# Altium footprint library PCB - LEADED - SOP - TI SOP-20 PWP0020D.PcbLib: 1 footprints
Each footprint in its own frame and in the unit in brackets; x right, y up, seen from the top. Pads: shape width x height; smd on the part's side, far side on the other; paste and mask are expansions set on the pad; w line width, h text height; cw(c..) or ccw(c..) is an arc to the next point about the centre after c.
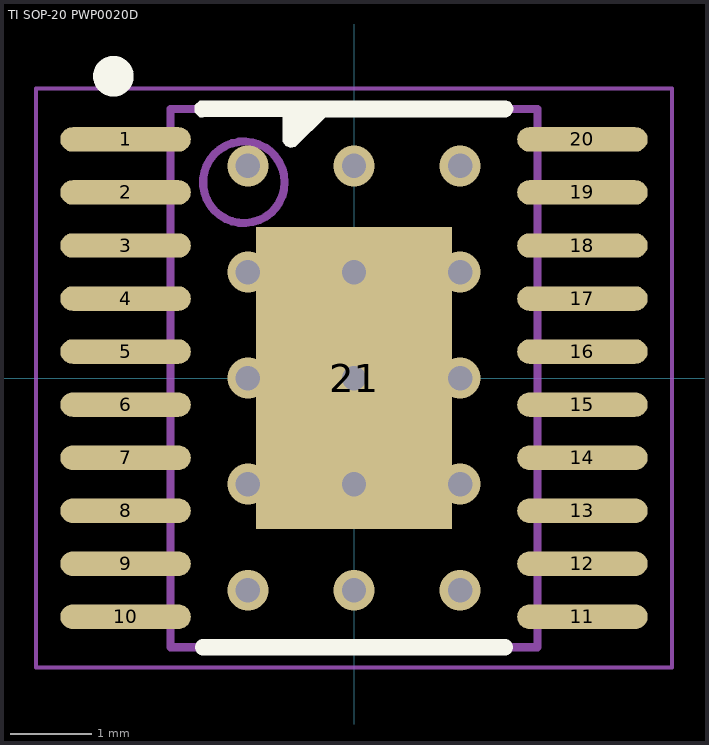
[diagram p0: the footprint, top view; thin cyan lines are the x and y axes]

## TI SOP-20 PWP0020D [mm] "SOP, 20-Leads, Body 6.50x4.40mm, Pitch 0.65mm, Thermal Pad 3.70x2.40mm, IPC Medium Density"
height 1.2
pads (21):
  oval 1.6x0.3 smd: 1(-2.8,2.925) 2(-2.8,2.275) 3(-2.8,1.625) 4(-2.8,0.975) 5(-2.8,0.325) 6(-2.8,-0.325) 7(-2.8,-0.975) 8(-2.8,-1.625) 9(-2.8,-2.275) 10(-2.8,-2.925) 11(2.8,-2.925) 12(2.8,-2.275) 13(2.8,-1.625) 14(2.8,-0.975) 15(2.8,-0.325) 16(2.8,0.325) 17(2.8,0.975) 18(2.8,1.625) 19(2.8,2.275) 20(2.8,2.925)
  rect 2.4x3.7 smd: 21(0,0)
via -1.3,-1.3 diameter 0.5 hole 0.3
via -1.3,-2.6 diameter 0.5 hole 0.3
via -1.3,2.6 diameter 0.5 hole 0.3
via -1.3,1.3 diameter 0.5 hole 0.3
via -1.3,0 diameter 0.5 hole 0.3
via 1.3,0 diameter 0.5 hole 0.3
via 1.3,-1.3 diameter 0.5 hole 0.3
via 1.3,-2.6 diameter 0.5 hole 0.3
via 1.3,2.6 diameter 0.5 hole 0.3
via 1.3,1.3 diameter 0.5 hole 0.3
via 0,1.3 diameter 0.5 hole 0.3
via 0,2.6 diameter 0.5 hole 0.3
via 0,-2.6 diameter 0.5 hole 0.3
via 0,-1.3 diameter 0.5 hole 0.3
via 0,0 diameter 0.5 hole 0.3
Top Overlay:
  circle w0.25: c-2.95,3.7 r0.125
  region: -1.85,3.2 -0.87,3.2 -0.87,2.926 -0.87,2.896 -0.837,2.845 -0.78,2.822 -0.721,2.833 -0.699,2.855 -0.354,3.2 1.85,3.2 1.87,3.2 1.907,3.215 1.935,3.243 1.95,3.28 1.95,3.3 1.95,3.32 1.935,3.357 1.907,3.385 1.87,3.4 1.85,3.4 -1.85,3.4 -1.892,3.4 -1.95,3.342 -1.95,3.258 -1.892,3.2
  lines w0.2: -1.85,-3.3 1.85,-3.3 ; -1.85,3.3 1.85,3.3 ; -0.77,3.29 -0.77,2.926 -0.406,3.29
Mechanical 13:
  circle w0.1: c-1.35,2.4 r0.5
  lines w0.1: -2.25,-3.3 -2.25,3.3 2.25,3.3 2.25,-3.3 -2.25,-3.3
Mechanical 15:
  lines w0.05: -3.9,-3.55 -3.9,3.55 3.9,3.55 3.9,-3.55 -3.9,-3.55
Mechanical 2 (Mech9):
  lines w0.1: -0.5,0 0.5,0 ; 0,-0.5 0,0.5
3D body "TI - SOP-20 - PWP0020D v1.step": height 1.2, standoff 0, extent -3.2,-3.25 3.2,3.25